# Altium schematic symbol library MEMS.SchLib: 1 symbol
Pins are listed as number, name and electrical type; pins without a type are passive.

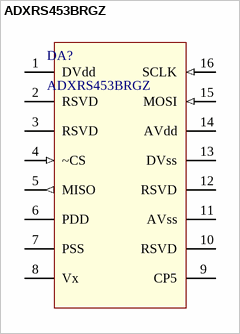
[diagram p0: symbol ADXRS453BRGZ]

## ADXRS453BRGZ
designator DA?
Digital Output Gyroscope Parallel Board; Order: ADXRS453BRGZ
footprint SOIC16_CAV (SOIC, 16-Leads, Body 10,30x7,70mm, Pitch 1,27mm, IPC Medium Density)
pins: 1 DVdd (power), 2 RSVD (power), 3 RSVD (power), 4 ~CS (in), 5 MISO (out), 6 PDD (power), 7 PSS (power), 8 Vx, 9 CP5 (power), 10 RSVD (power), 11 AVss (power), 12 RSVD (power), 13 DVss (power), 14 AVdd (power), 15 MOSI (in), 16 SCLK (in)